# Altium footprint library aluminum electrolytic.PcbLib: 2 footprints
Each footprint in its own frame and in the unit in brackets; x right, y up, seen from the top. Pads: shape width x height; smd on the part's side, far side on the other; paste and mask are expansions set on the pad; w line width, h text height; cw(c..) or ccw(c..) is an arc to the next point about the centre after c.
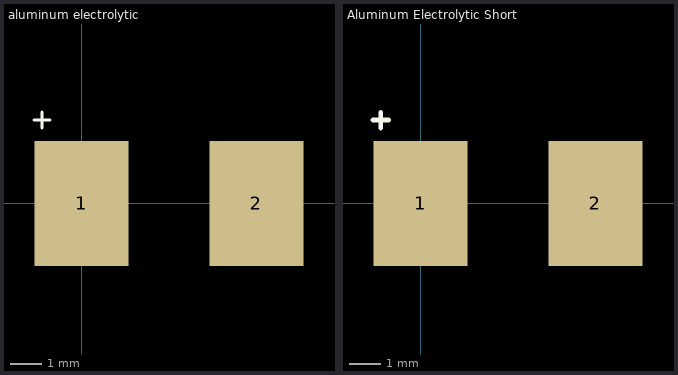
[diagram p0: the footprints below, top view; thin cyan lines are the x and y axes]

## aluminum electrolytic [mm] "6.3x7.7mm, 100uF, 35V aluminum electrolytic cap"
height 7.7
pads (2):
  rect 3x4 smd: 1(0,0) 2(5.6,0)
Top Overlay:
  lines w0.1: -1.524,2.667 -1.016,2.667 ; -1.27,2.413 -1.27,2.921
3D body: height 7.7, standoff 0, extent -0.85,-3.3 6.45,3.3

## Aluminum Electrolytic Short [mm] "6.3x5.8mm, 100uF, 35V aluminum electrolytic cap"
height 5.8
pads (2):
  rect 3x4 smd: 1(0,0) 2(5.6,0)
Top Overlay:
  lines w0.15: -1.524,2.667 -1.016,2.667 ; -1.27,2.413 -1.27,2.921
3D body: height 3.91, standoff 0, extent -0.813,-3.173 6.187,3.427